# EAGLE library part NUF8402MNT4G (library Filters)
FILTER RC(PI) 100 OHM/17PF SMD Manufacturer's datasheet <https://www.onsemi.cn/PowerSolutions/document/NUF8402MN-D.PDF>
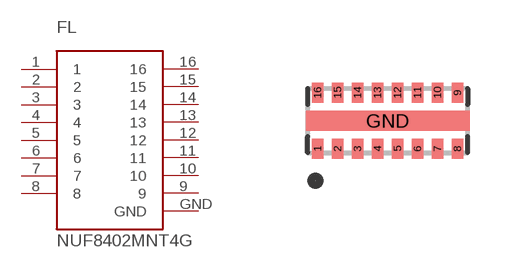
[diagram p9: symbol with the pads of NUF8402MNT4G; footprint NUF8402MNT4G]

Designator prefix FL

## NUF8402MNT4G (CREATED_BY: PCBLayout.com; DIGIKEY_PN: NUF8402MNT4GOSTR-ND; MANUFACTURER: ON Semiconductor; MPN: NUF8402MNT4G; PACKAGE: 16-VFDFN)  [NUF8402MNT4G]
1  1  pas
2  2  pas
3  3  pas
4  4  pas
5  5  pas
6  6  pas
7  7  pas
8  8  pas
9  9  pas
10  10  pas
11  11  pas
12  12  pas
13  13  pas
14  14  pas
15  15  pas
16  16  pas
GND  GND  pwr

## Footprint NUF8402MNT4G (pad centres in mm)
smd 0.28 x 0.51: 1 -1.75,-0.7; 2 -1.25,-0.7; 3 -0.75,-0.7; 4 -0.25,-0.7; 5 0.25,-0.7; 6 0.75,-0.7; 7 1.25,-0.7; 8 1.75,-0.7; 9 1.75,0.7; 10 1.25,0.7; 11 0.75,0.7; 12 0.25,0.7; 13 -0.25,0.7; 14 -0.75,0.7; 15 -1.25,0.7; 16 -1.75,0.7
smd 4.1 x 0.5: GND 0,0